# EAGLE library part MY_ARDUINO_MEGA1.1 (library smylbr)
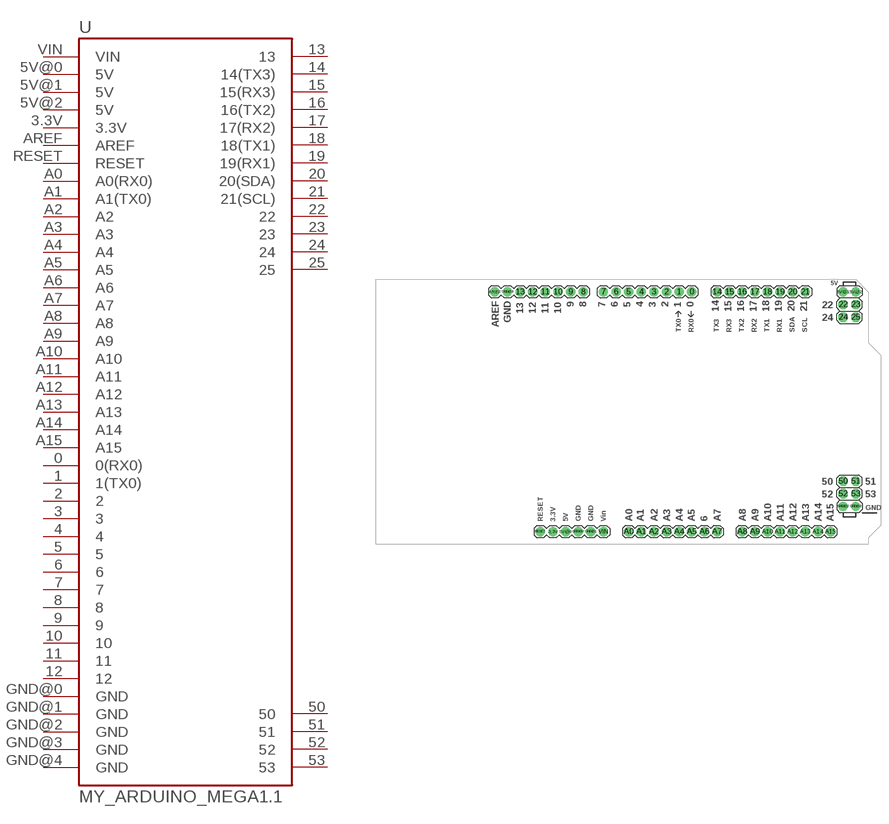
[diagram p6: symbol with the pads of ARDUINO_MEGA1.1; footprint ARDUINO_MEGA1.1]

Designator prefix -

## MY_ARDUINO_MEGA1.1  [ARDUINO_MEGA1.1]
0  0(RX0)
1  1(TX0)
2  2
3  3
3.3V  3.3V
4  4
5  5
5V@0  5V
5V@1  5V
5V@2  5V
6  6
7  7
8  8
9  9
10  10
11  11
12  12
13  13
14  14(TX3)
15  15(RX3)
16  16(TX2)
17  17(RX2)
18  18(TX1)
19  19(RX1)
20  20(SDA)
21  21(SCL)
22  22
23  23
24  24
25  25
50  50
51  51
52  52
53  53
A0  A0(RX0)
A1  A1(TX0)
A2  A2
A3  A3
A4  A4
A5  A5
A6  A6
A7  A7
A8  A8
A9  A9
A10  A10
A11  A11
A12  A12
A13  A13
A14  A14
A15  A15
AREF  AREF
GND@0  GND
GND@1  GND
GND@2  GND
GND@3  GND
GND@4  GND
RESET  RESET
VIN  VIN

## Footprint ARDUINO_MEGA1.1 (pad centres in mm)
drill 1.016 pad 1.88: 0 -36.83,-2.54; 1 -39.37,-2.54; 2 -41.91,-2.54; 3 -44.45,-2.54; 3.3V -64.77,-50.8; 4 -46.99,-2.54; 5 -49.53,-2.54; 5V@0 -62.23,-50.8; 5V@1 -6.35,-2.54; 5V@2 -3.81,-2.54; 6 -52.07,-2.54; 7 -54.61,-2.54; 8 -58.674,-2.54; 9 -61.214,-2.54; 10 -63.754,-2.54; 11 -66.294,-2.54; 12 -68.834,-2.54; 13 -71.374,-2.54; 14 -31.75,-2.54; 15 -29.21,-2.54; 16 -26.67,-2.54; 17 -24.13,-2.54; 18 -21.59,-2.54; 19 -19.05,-2.54; 20 -16.51,-2.54; 21 -13.97,-2.54; A0 -49.53,-50.8; A1 -46.99,-50.8; A2 -44.45,-50.8; A3 -41.91,-50.8; A4 -39.37,-50.8; A5 -36.83,-50.8; A6 -34.29,-50.8; A7 -31.75,-50.8; A8 -26.67,-50.8; A9 -24.13,-50.8; A10 -21.59,-50.8; A11 -19.05,-50.8; A12 -16.51,-50.8; A13 -13.97,-50.8; A14 -11.43,-50.8; A15 -8.89,-50.8; AREF -76.454,-2.54; GND@0 -59.69,-50.8; GND@1 -57.15,-50.8; GND@2 -6.35,-45.72; GND@3 -3.81,-45.72; GND@4 -73.914,-2.54; RESET -67.31,-50.8; VIN -54.61,-50.8
drill 1.016 pad 1.88 octagon: 22 -6.35,-5.08; 23 -3.81,-5.08; 24 -6.35,-7.62; 25 -3.81,-7.62; 50 -6.35,-40.64; 51 -3.81,-40.64; 52 -6.35,-43.18; 53 -3.81,-43.18